# EAGLE library part DS01C-254-S-04BE (library Dip switch 4 vias)
Check prices <https://pricing.snapeda.com/parts/DS01C-254-S-04BE/CUI%20Devices/view-part?ref=eda>
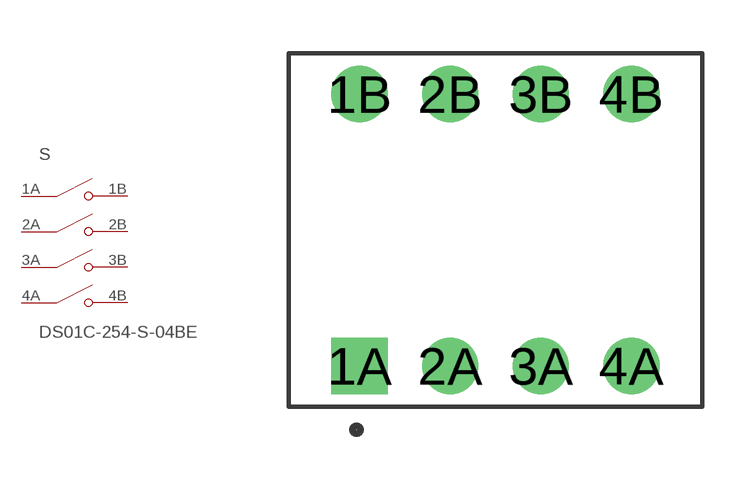
[diagram p0: symbol with the pads of SW_DS01C-254-S-04BE; footprint SW_DS01C-254-S-04BE]

Designator prefix S

## DS01C-254-S-04BE (Availability: In Stock; CUI_purchase_URL: https://www.cuidevices.com/product/switches/dip-switches/ds01-254-series?utm_source=snapeda.com&utm_medium=referral&utm_campaign=snapedaBOM; Description: 4 Position, Through Hole, 2.54 mm Pitch, Raised Slide Actuator, Convex Bottom, Short Pin, DIP Switch; MF: CUI Devices; MP: DS01C-254-S-04BE; Package: None; Price: None; Purchase-URL: https://pricing.snapeda.com/search/part/DS01C-254-S-04BE/?ref=eda)  [SW_DS01C-254-S-04BE]
1A  COM1  pas
1B  NO1  pas
2A  COM2  pas
2B  NO2  pas
3A  COM3  pas
3B  NO3  pas
4A  COM4  pas
4B  NO4  pas

## Footprint SW_DS01C-254-S-04BE (pad centres in mm)
drill 1 pad 1.58 square: 1A -3.81,-3.81
drill 1 pad 1.58: 1B -3.81,3.81; 2A -1.27,-3.81; 2B -1.27,3.81; 3A 1.27,-3.81; 3B 1.27,3.81; 4A 3.81,-3.81; 4B 3.81,3.81